# EAGLE library part LSM6DS3-GY (library NA-2025)
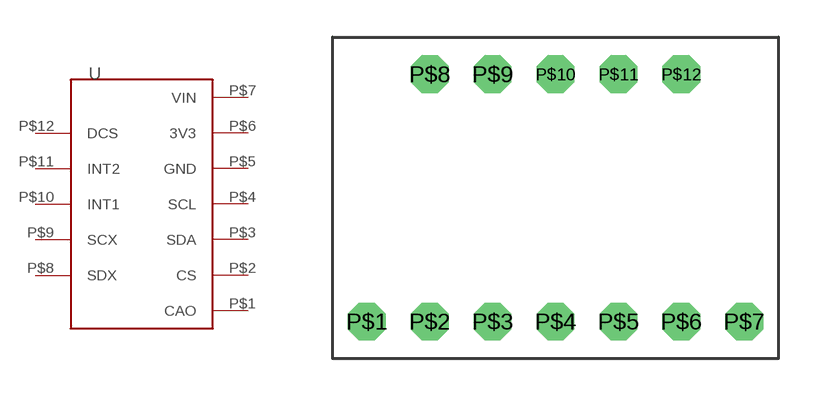
[diagram p28: symbol with the pads of LSM6DS3-GY; footprint LSM6DS3-GY]

Designator prefix -

## LSM6DS3-GY  [LSM6DS3-GY]
P$1  CAO
P$2  CS
P$3  SDA
P$4  SCL
P$5  GND
P$6  3V3
P$7  VIN
P$8  SDX
P$9  SCX
P$10  INT1
P$11  INT2
P$12  DCS

## Footprint LSM6DS3-GY (pad centres in mm)
drill 1.016 octagon: P$1 -7.62,-5; P$2 -5.08,-5; P$3 -2.54,-5; P$4 0,-5; P$5 2.54,-5; P$6 5.08,-5; P$7 7.62,-5; P$8 -5.08,5; P$9 -2.54,5; P$10 0,5; P$11 2.54,5; P$12 5.08,5